# Altium integrated library PCB_Project1.IntLib: 16 symbols
Pins are listed as number, name and electrical type; pins without a type are passive.

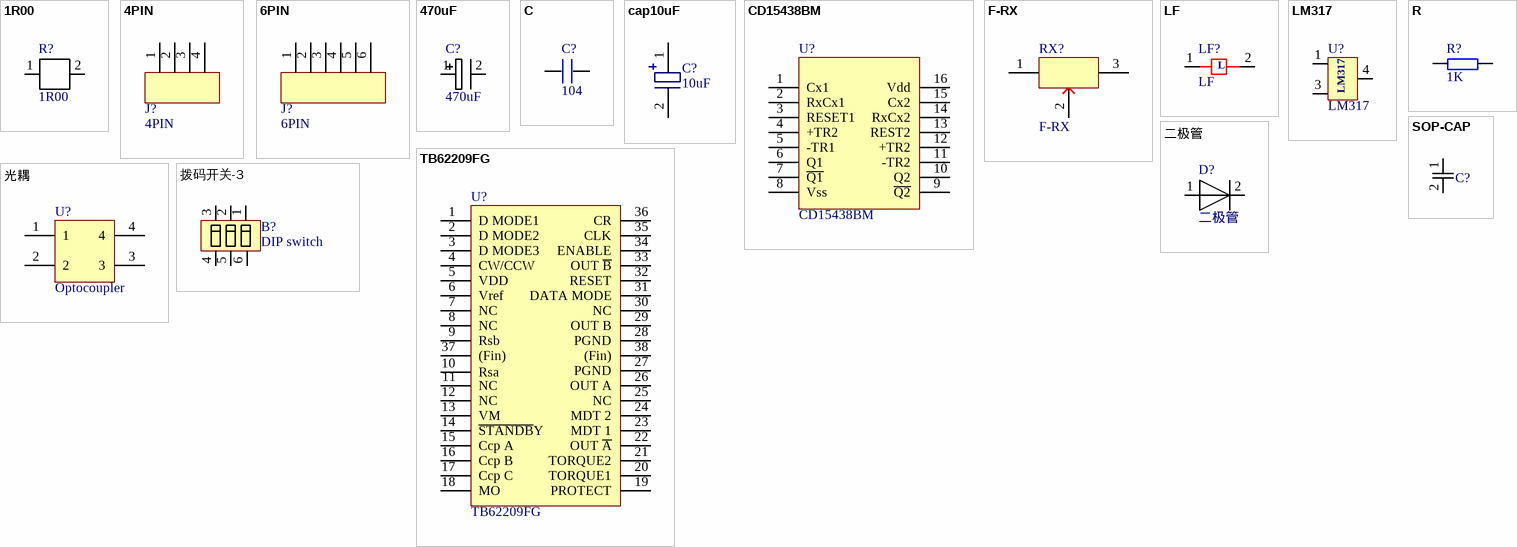
[diagram p0: symbols 1R00 to 拨码开关-3]

## 1R00
designator R?
footprint 1R00
pins: 1, 2

## 4PIN
designator J?
footprint 4PIN
pins: 1, 2, 3, 4

## 6PIN
designator J?
footprint 6PIN
pins: 1, 2, 3, 4, 5, 6

## 470uF
designator C?
footprint 470uF CAP
footprint 470uF CAP
pins: 1, 2

## C
designator C?, comment 104
footprint 0603P
pins: 1, 2

## cap10uF
designator C?, comment 10uF
footprint CAP
pins: 1, 2

## CD15438BM
designator U?
footprint CD14538BM (SOP, 16-Leads, Body 10.0x4.0mm (max), Pitch 1.27mm, IPC Medium Density)
pins: 1 Cx1, 2 RxCx1, 3 RESET1, 4 +TR2, 5 -TR1, 6 Q1, 7 ~{Q1}, 8 Vss, 9 ~{Q2}, 10 Q2, 11 -TR2, 12 +TR2, 13 REST2, 14 RxCx2, 15 Cx2, 16 Vdd

## F-RX
designator RX?
footprint F-RX
pins: 1, 2, 3

## LF
designator LF?
footprint LF
pins: 1, 2
text: L

## LM317
designator U?
footprint LM317-SOP (D2-PAK, 3-Pads, Body 9.4x10.4mm (max), IPC Medium Density)
pins: 1, 3, 4

## R
designator R?, comment value 1K  (hidden comment: 22R)
footprint 0603P
pins: 1, 2

## SOP-CAP
designator C?  (value not drawn)
Value: *
footprint 0805
pins: 1, 2

## TB62209FG
designator U?
footprint TB62209FG
pins: 1 D MODE1, 2 D MODE2, 3 D MODE3, 4 CW/CCW, 5 VDD, 6 Vref, 7 NC, 8 NC, 9 Rsb, 10 Rsa, 11 NC, 12 NC, 13 VM, 14 ~{STANDB}Y, 15 Ccp A, 16 Ccp B, 17 Ccp C, 18 MO, 19 PROTECT, 20 TORQUE1, 21 TORQUE2, 22 OUT ~{A}, 23 MDT 1, 24 MDT 2, 25 NC, 26 OUT A, 27 PGND, 28 PGND, 29 OUT B, 30 NC, 31 DATA MODE, 32 RESET, 33 OUT ~{B}, 34 ENABLE, 35 CLK, 36 CR, 37 (Fin), 38 (Fin)

## 二极管
designator D?
footprint 二极管
footprint 二极管
pins: 1, 2

## 光耦
designator U?, comment Optocoupler
footprint 光耦
pins: 1, 2, 3, 4

## 拨码开关-3
designator B?, comment DIP switch
footprint 拨码开关-3
pins: 1, 2, 3, 4, 5, 6